# EAGLE library part A4988 (library A4988_Breakout)
A4988_Breakout
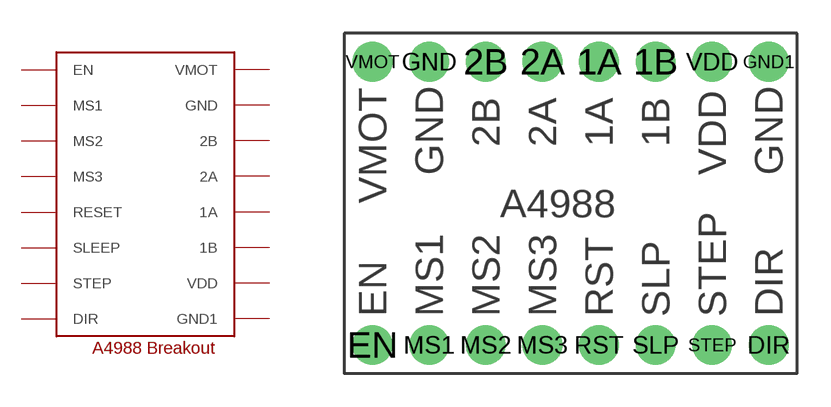
[diagram p0: symbol with the pads of A4988_BREAKOUT; footprint A4988_BREAKOUT]

Designator prefix -

## A4988  [A4988_BREAKOUT]
1A  1A
1B  1B
2A  2A
2B  2B
DIR  DIR
EN  EN
GND  GND
GND1  GND1
MS1  MS1
MS2  MS2
MS3  MS3
RST  RESET
SLP  SLEEP
STEP  STEP
VDD  VDD
VMOT  VMOT

## Footprint A4988_BREAKOUT (pad centres in mm)
A4988 Breakout Pinout
drill 0.9 pad 1.778: 1A 11.43,13.97; 1B 13.97,13.97; 2A 8.89,13.97; 2B 6.35,13.97; DIR 19.05,1.27; EN 1.27,1.27; GND 3.81,13.97; GND1 19.05,13.97; MS1 3.81,1.27; MS2 6.35,1.27; MS3 8.89,1.27; RST 11.43,1.27; SLP 13.97,1.27; STEP 16.51,1.27; VDD 16.51,13.97; VMOT 1.27,13.97